# Altium footprint library TO-220-5.PcbLib: 1 footprints
Each footprint in its own frame and in the unit in brackets; x right, y up, seen from the top. Pads: shape width x height; smd on the part's side, far side on the other; paste and mask are expansions set on the pad; w line width, h text height; cw(c..) or ccw(c..) is an arc to the next point about the centre after c.
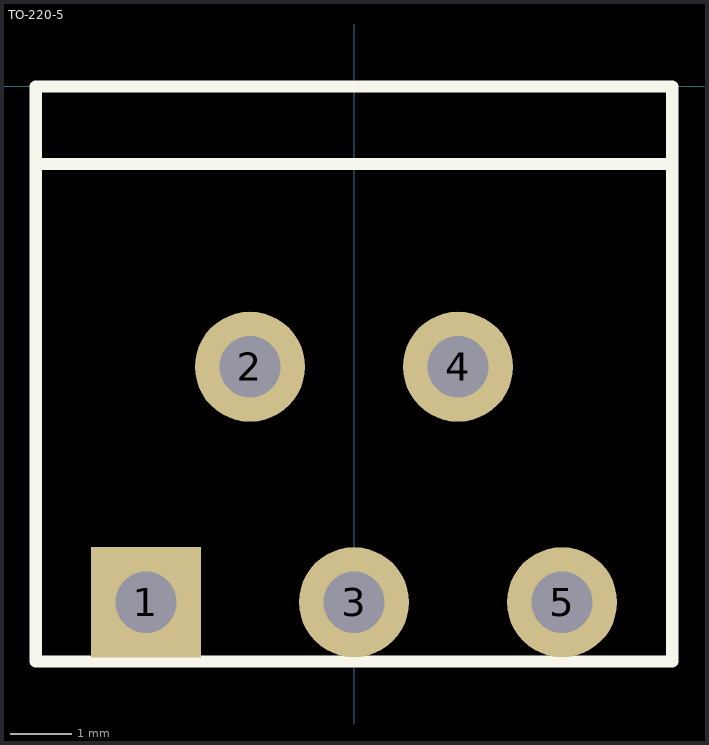
[diagram p0: the footprint, top view; thin cyan lines are the x and y axes]

## TO-220-5 [mm]
height 1.1
pads (5):
  rect 1.8x1.8 hole 1: 1(-3.4,-8.43)
  round 1.8 hole 1: 2(-1.7,-4.58) 3(0,-8.43) 4(1.7,-4.58) 5(3.4,-8.43)
Top Overlay:
  lines w0.2: -5.2,-1.27 5.2,-1.27 ; -5.2,-9.4 -5.2,0 5.2,0 5.2,-9.4 -5.2,-9.4
Top Assembly:
  lines w0.1: -5.2,-9.4 -5.2,0 3.55,0 5.2,0 5.2,-9.4 -5.2,-9.4
  text "'.Designator'" at 0,0 h0.7
3D body "User Library-TO220-5-1.STEP": height 21, standoff -7.28, extent -5.1,-8.556 5.1,0